# Altium footprint library SON127P600X500X90-9N-1-V1.PcbLib: 1 footprints
Each footprint in its own frame and in the unit in brackets; x right, y up, seen from the top. Pads: shape width x height; smd on the part's side, far side on the other; paste and mask are expansions set on the pad; w line width, h text height; cw(c..) or ccw(c..) is an arc to the next point about the centre after c.
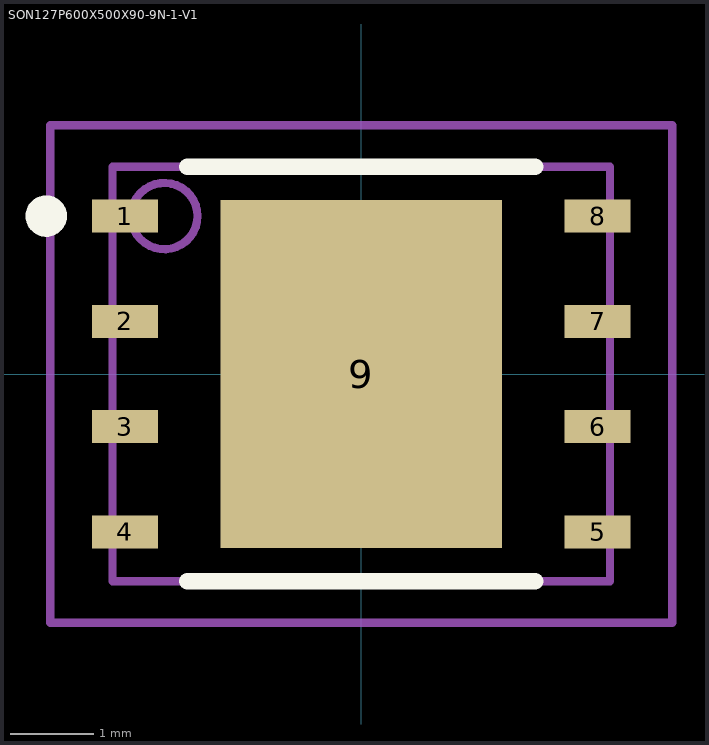
[diagram p0: the footprint, top view; thin cyan lines are the x and y axes]

## SON127P600X500X90-9N-1-V1 [mm] "SON,1.27mm pitch;8 pin,6.00mm W X 5.00mm L X 0.90mm H body (w/thermal tab)"
height 0.9
pads (9):
  rect 0.8x0.4 smd paste+0 mask+0: 1(-2.85,1.905) 2(-2.85,0.635) 3(-2.85,-0.635) 4(-2.85,-1.905) 5(2.85,-1.905) 6(2.85,-0.635) 7(2.85,0.635) 8(2.85,1.905)
  rect 3.4x4.2 smd paste-1.7 mask+0: 9(0,0)
Top Overlay:
  circle w0.25: c-3.8,1.905 r0.125
  lines w0.2: -2.1,-2.5 2.1,-2.5 ; -2.1,2.5 2.1,2.5
Top Paste:
  region: -0.6,0.6 0.6,0.6 0.6,-0.6 -0.6,-0.6
  region: -0.6,2.05 0.6,2.05 0.6,0.85 -0.6,0.85
  region: -0.6,-0.85 0.6,-0.85 0.6,-2.05 -0.6,-2.05
  region: 0.85,2.05 1.65,2.05 1.65,0.85 0.85,0.85
  region: -0.85,-2.05 -1.65,-2.05 -1.65,-0.85 -0.85,-0.85
  region: -0.85,0.85 -1.65,0.85 -1.65,2.05 -0.85,2.05
  region: 0.85,-0.85 1.65,-0.85 1.65,-2.05 0.85,-2.05
  region: -0.85,-0.6 -1.65,-0.6 -1.65,0.6 -0.85,0.6
  region: 1.65,-0.6 0.85,-0.6 0.85,0.6 1.65,0.6
M3 (ASY_Text_Top):
  text ".DESIGNATOR" at -3.643,-0.385 h1.2
M13 (CMP_Body_OTL_Top):
  circle w0.1: c-2.375,1.905 r0.4
  lines w0.1: -3,-2.5 -3,2.5 3,2.5 3,-2.5 -3,-2.5
M15 (CMP_Courtyard_Top):
  lines w0.1: -0.5,0 0.5,0 ; 0,-0.5 0,0.5 ; -3.75,-3 -3.75,3 3.75,3 3.75,-3 -3.75,-3
3D body "PG-VQFN-8-4_Z8B00132177_V10_3D.stp": height 0.91, standoff 0, extent -3,-2.5 3,2.5